# Altium schematic symbol library Resistors_and_capasitors.SchLib: 10 symbols
Pins are listed as number, name and electrical type; pins without a type are passive.

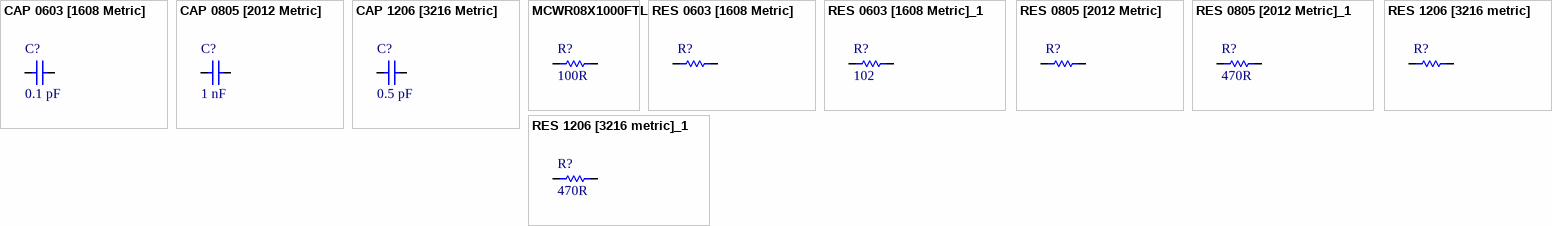
[diagram p0: symbols CAP 0603 [1608 Metric] to RES 1206 [3216 metric]_1]

## CAP 0603 [1608 Metric]
designator C?, comment 0.1 pF
Multilayer Ceramic Capacitors MLCC - SMD/SMT 0603 0.1pF 100V C0G .25pF HI FREQ; Manufacturer: Vishay / Vitramon; Manufacturer Part Number: VJ0603D0R1CXBAJ; Tollerance: 0.25 pF; Voltage: 100 VDC; Dialectric: C0G (NP0); Value: 0.1 pF; Supplier 1: mouser; Supplier Part Number 1: 77-VJ0603D0R1CXBAJ; Package: 0603 [1608 Metric]; Part Type: High Frequency MLCC; ComponentLink1Description: https://eu.mouser.com/datasheet/2/427/vjhifreq-1391225.pdf; ComponentLink1URL: https://eu.mouser.com/ProductDetail/Vishay-Vitramon/VJ0603D0R1CXBAJ/?qs=5aG0NVq1C4xFAyg9C8Xxww%3D%3D; Mounting: SMD/SMT
footprint RESC1608N (Chip Resistor, Body 1.6x0.8mm, IPC Medium Density)
footprint Capasitor (Footprint not found)
pins: 1, 2
1 alternate drawing of the same symbol

## CAP 0805 [2012 Metric]
designator C?, comment 1 nF
Multilayer Ceramic Capacitors MLCC - SMD/SMT 0805 0.1pF 250V C0G .10pF HI FREQ; Manufacturer: Vishay / Vitramon; Manufacturer Part Number: VJ0805D0R1BXPAJHT; Voltage: 250 VDC; Dialectric: C0G (NP0); Value: 1 nF; Supplier 1: mouser; Supplier Part Number 1: 77-VJ0805D0R1BXPAJHT; Tollerance: 0.1 pF; Package: 0805 [2012 Metric]; Part Type: High Temperature MLCC; ComponentLink1Description: https://eu.mouser.com/datasheet/2/427/vjhifreqht-1128230.pdf; ComponentLink1URL: https://eu.mouser.com/ProductDetail/Vishay-Vitramon/VJ0805D0R1BXPAJHT/?qs=HXFqYaX1Q2ys%2Fz3sbYQ8tQ%3D%3D; Mounting: SMD/SMT
footprint RESC1608N (Chip Resistor, Body 1.6x0.8mm, IPC Medium Density)
footprint Capasitor (Footprint not found)
pins: 1, 2
1 alternate drawing of the same symbol

## CAP 1206 [3216 Metric]
designator C?, comment 0.5 pF
Multilayer Ceramic Capacitors MLCC - SMD/SMT 200V .5pF C0G 1206 .25pF Tol; Manufacturer: AVX; Manufacturer Part Number: 12062A0R5CAT2A; Tollerance: 0.25 pF; Voltage: 200 VDC; Dialectric: C0G (NP0); Value: 0.5 pF; Supplier 1: mouser; Supplier Part Number 1: 581-12062A0R5CAT2A; Package: 1206 [3216 Metric]; Part Type: C0G (NP0) Dielectric; ComponentLink1Description: https://eu.mouser.com/datasheet/2/40/C0GNP0_Dielectric-951274.pdf; ComponentLink1URL: https://eu.mouser.com/ProductDetail/AVX/12062A0R5CAT2A/?qs=mUWCwIpjqiy07yDh15u4Pw%3D%3D; Mounting: SMD/SMT
footprint RESC1608N (Chip Resistor, Body 1.6x0.8mm, IPC Medium Density)
footprint Capasitor (Footprint not found)
pins: 1, 2
1 alternate drawing of the same symbol

## MCWR08X1000FTL
designator R?, comment 100R
RES 100K, ±10%, 125mW, 150V, 0805 [2012 Metric], Thick Film, MCWR Series; Manufacturer: MULTICOMP; Manufacturer Part Number: MCWR08X1000FTL; Tollerance: ±1%; Temperature Coefficient: ±100ppm/°C; Value: 100R; Supplier 1: Farnell; Supplier Part Number 1: 2447552; Power: 125mW; Voltage: 150V; Package: 0805 [2012 Metric]; Part Type: Thick Film; ComponentLink1Description: Datasheet; ComponentLink1URL: http://www.farnell.com/datasheets/2860681.pdf; Mounting: SMD
footprint RESC2012N (Chip Resistor, Body 2.0x1.3mm, IPC Medium Density)
pins: 1, 2
1 alternate drawing of the same symbol

## RES 0603 [1608 Metric]
designator R?
RES 100K, ±10%, 125mW, 150V, 0603 [1608 Metric], Thick Film; Package: 0603 [1608 Metric]; ComponentLink1Description: Datasheet; Mounting: SMD
footprint RESC1608N (Chip Resistor, Body 1.6x0.8mm, IPC Medium Density)
pins: 1, 2
1 alternate drawing of the same symbol

## RES 0603 [1608 Metric]_1
designator R?, comment 102
Thick Film Resistors - SMD 0603 0.25W 5% 470ohm AEC-Q200; Manufacturer: Panasonic; Manufacturer Part Number: ERJ-UP3J471V; Power: 250 mW (1/4 W); Voltage: 150 V; Temperature Coefficient: 100 PPM / C; Value: 102; Supplier 1: mouser; Supplier Part Number 1: 667-ERJ-UP3J471V; Tollerance: 5%; Package: 0603 [1608 Metric]; Part Type: Thick Film; ComponentLink1Description: https://eu.mouser.com/datasheet/2/315/Panasonic_Resistors_Thick_Film_Anti_Sulf_Anti_Surg-1825099.pdf; ComponentLink1URL: https://eu.mouser.com/ProductDetail/Panasonic/ERJ-UP3J471V/?qs=sGAEpiMZZMtlubZbdhIBINZyO39%252BOXIfLZpE3i224Ww%3D; Mounting: SMD/SMT
footprint RESC1608N (Chip Resistor, Body 1.6x0.8mm, IPC Medium Density)
pins: 1, 2
1 alternate drawing of the same symbol

## RES 0805 [2012 Metric]
designator R?
RES 100K, ±10%, 125mW, 150V, 0805 [2012 Metric], Thick Film; Package: 0805 [2012 Metric]; ComponentLink1Description: Datasheet; Mounting: SMD
footprint RESC2012N (Chip Resistor, Body 2.0x1.3mm, IPC Medium Density)
pins: 1, 2
1 alternate drawing of the same symbol

## RES 0805 [2012 Metric]_1
designator R?, comment 470R
Thin Film Resistors - SMD 0805 0.1% 470ohm 25ppm SMD; Manufacturer: Panasonic; Manufacturer Part Number: ERA-6VEB4700V; Power: 125 mW (1/8 W); Voltage: 100 V; Temperature Coefficient: 25 PPM / C; Value: 470R; Supplier 1: mouser; Supplier Part Number 1: 667-ERA-6VEB4700V; Tollerance: 0.1 %; Package: 0805 [2012 Metric]; Part Type: Thin Film; ComponentLink1Description: https://eu.mouser.com/datasheet/2/315/Panasonic_Resistor_Thin_Film_(ERA-xV_2c_ERA-xK_Ser-1815278.pdf; ComponentLink1URL: https://eu.mouser.com/ProductDetail/Panasonic/ERA-6VEB4700V/?qs=sGAEpiMZZMtlubZbdhIBIF3tu7NV9mhCZWp4CWS5Sz0%3D; Mounting: SMD/SMT
footprint RESC2012N (Chip Resistor, Body 2.0x1.3mm, IPC Medium Density)
pins: 1, 2
1 alternate drawing of the same symbol

## RES 1206 [3216 metric]
designator R?
RES 100K, ±10%, 125mW, 150V, 1206 [3216 Metric], Thick Film; Package: 1206 [3216 Metric]; ComponentLink1Description: Datasheet; Mounting: SMD
footprint RESC3216N (Chip Resistor, Body 3.2x1.6mm, IPC Medium Density)
pins: 1, 2
1 alternate drawing of the same symbol

## RES 1206 [3216 metric]_1
designator R?, comment 470R
Thin Film Resistors - SMD 470 ohm 0.5% 25 ppm; Manufacturer: KOA Speer; Manufacturer Part Number: RN73R2BTTD4700D25; Power: 125 mW (1/8 W); Voltage: 200 V; Temperature Coefficient: 25 PPM / C; Value: 470R; Supplier 1: mouser; Supplier Part Number 1: 660-RN73R2BTD4700D25; Tollerance: 0.5 %; Package: 1206 [3216 Metric]; Part Type: Thin Film; ComponentLink1Description: https://eu.mouser.com/datasheet/2/219/RN73R-1840156.pdf; ComponentLink1URL: https://eu.mouser.com/ProductDetail/KOA-Speer/RN73R2BTTD4700D25/?qs=sGAEpiMZZMtlubZbdhIBIBxun8lRlHAqdzjPO8p0GS0%3D; Mounting: SMD/SMT
footprint RESC3216N (Chip Resistor, Body 3.2x1.6mm, IPC Medium Density)
pins: 1, 2
1 alternate drawing of the same symbol